# Altium footprint library CH340.PcbLib: 20 footprints (part 2 of 2)
Each footprint in its own frame and in the unit in brackets; x right, y up, seen from the top. Pads: shape width x height; smd on the part's side, far side on the other; paste and mask are expansions set on the pad; w line width, h text height; cw(c..) or ccw(c..) is an arc to the next point about the centre after c.
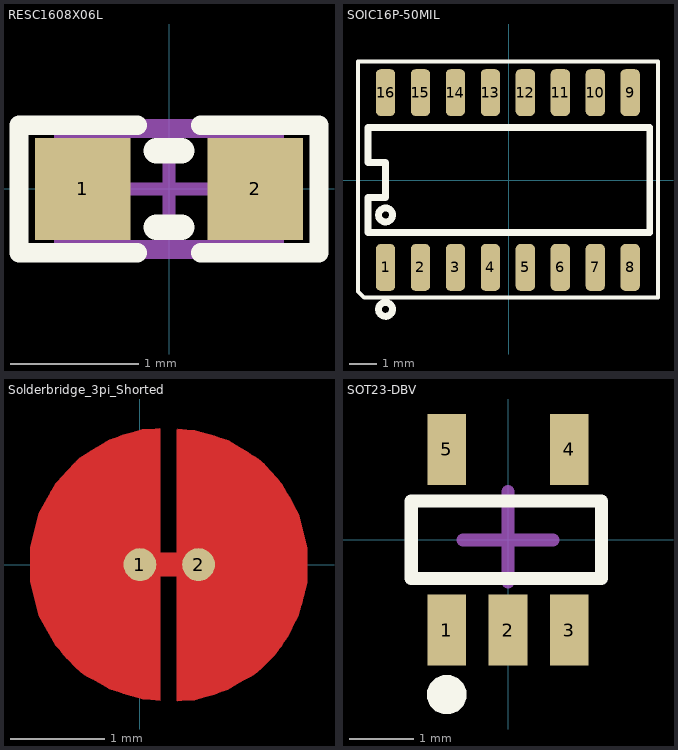
[diagram p1: the footprints below, top view; thin cyan lines are the x and y axes]

## RESC1608X06L [mm]
pads (2):
  rect 0.75x0.8 smd: 1(-0.675,0) 2(0.675,0)
Top Overlay:
  lines w0.152: -0.25,-0.5 -1.175,-0.5 -1.175,0.5 -0.25,0.5 ; 0.25,-0.5 1.175,-0.5 1.175,0.5 0.25,0.5
  lines w0.2: -0.1,-0.3 0.1,-0.3 ; -0.1,0.3 0.1,0.3
Mechanical 13:
  lines w0.1: -0.85,-0.45 0.85,-0.45 0.85,0.45 -0.85,0.45 -0.85,-0.45
Mechanical 15:
  lines w0.1: -0.45,0 0.45,0 ; 0,-0.45 0,0.45 ; -1.175,-0.5 -1.175,0.5 1.175,0.5 1.175,-0.5 -1.175,-0.5
3D body "User Library-Chip Inductor.step": height 0.8, standoff 0, extent -0.8,-0.475 0.8,0.475

## SOIC16P-50MIL [mm]
pads (16):
  rrect50% 0.7x1.7 smd: 1(-4.483,-3.175) 2(-3.213,-3.175) 3(-1.943,-3.175) 4(-0.673,-3.175) 5(0.597,-3.175) 6(1.867,-3.175) 7(3.137,-3.175) 8(4.407,-3.175) 9(4.407,3.175) 10(3.137,3.175) 11(1.867,3.175) 12(0.597,3.175) 13(-0.673,3.175) 14(-1.943,3.175) 15(-3.213,3.175) 16(-4.483,3.175)
Top Overlay:
  circle w0.25: c-4.483,-4.699 r0.254
  circle w0.25: c-4.483,-1.27 r0.254
  lines w0.15: -5.483,-4.05 -5.258,-4.275 5.417,-4.275 5.417,4.3 -5.483,4.3 -5.483,-4.05
  lines w0.25: -5.118,-1.905 -5.118,-0.635 -4.483,-0.635 -4.483,0.635 -5.118,0.635 -5.118,1.905 5.118,1.905 5.118,-1.905 -5.118,-1.905
3D body "step_temp.STEP": height 2, standoff 0, extent -5.183,-3.875 5.017,3.925

## Solderbridge_3pi_Shorted [mm]
pads (2):
  round 0.35 smd paste-10: 1(0,0) 2(0.625,0)
Top Layer:
  region: 0.215,-1.446 0.03,-1.438 -0.325,-1.329 -0.64,-1.134 -0.897,-0.867 -1.078,-0.543 -1.172,-0.185 -1.172,0.186 -1.079,0.545 -0.899,0.869 -0.643,1.138 -0.328,1.333 0.026,1.443 0.211,1.451 0.215,1.447
  region: 0.398,-1.454 0.398,1.439 0.402,1.443 0.587,1.434 0.941,1.325 1.256,1.129 1.512,0.861 1.692,0.537 1.785,0.178 1.785,-0.193 1.691,-0.552 1.51,-0.875 1.253,-1.143 0.938,-1.337 0.583,-1.446
  lines w0.012: 0.211,1.451 ccw(c0.278,0.003) 0.215,-1.446 ; 0.398,-1.454 ccw(c0.335,-0.005) 0.402,1.443
  lines w0.013: 0.215,-1.446 0.215,1.447 ; 0.398,-1.454 0.398,1.439
  lines w0.254: 0,0 0.625,0
  lines w1: -0.351,0.722 ccw(c0.335,-0.005) -0.315,-0.765 ; 0.937,-0.764 ccw(c0.287,-0.004) 0.973,0.724
Top Solder:
  circle w0.012: c0.31,0.006 r1.6
  region: -1.29,0.006 -1.29,-0.151 -1.229,-0.46 -1.108,-0.752 -0.933,-1.014 -0.71,-1.237 -0.448,-1.412 -0.157,-1.532 0.152,-1.594 0.31,-1.594 0.467,-1.594 0.777,-1.532 1.068,-1.412 1.33,-1.237 1.553,-1.014 1.728,-0.752 1.848,-0.46 1.91,-0.151 1.91,0.006 1.91,0.164 1.848,0.473 1.728,0.764 1.553,1.026 1.33,1.249 1.068,1.424 0.777,1.545 0.467,1.606 0.31,1.606 0.152,1.606 -0.157,1.545 -0.448,1.424 -0.71,1.249 -0.933,1.026 -1.108,0.764 -1.229,0.473 -1.29,0.164

## SOT23-DBV [mm]
pads (5):
  rect 0.6x1.1 smd mask+0.025: 1(-0.95,-1.4) 2(0,-1.4) 3(0.95,-1.4) 4(0.95,1.4) 5(-0.95,1.4)
Top Overlay:
  region: -0.65,-2.4 -0.65,-2.34 -0.696,-2.23 -0.78,-2.146 -0.89,-2.1 -0.95,-2.1 -1.01,-2.1 -1.12,-2.146 -1.204,-2.23 -1.25,-2.34 -1.25,-2.4 -1.25,-2.46 -1.204,-2.57 -1.12,-2.654 -1.01,-2.7 -0.95,-2.7 -0.89,-2.7 -0.78,-2.654 -0.696,-2.57 -0.65,-2.46
  lines w0.203: -1.5,-0.6 -1.5,0.6 1.45,0.6 1.45,-0.6 -1.5,-0.6
Mechanical 16:
  lines w0.203: -0.7,0 0.7,0 ; 0,-0.65 0,0.75
3D body: height 1.1, standoff 0, extent -1.085,-0.699 1.065,0.701